# Altium footprint library BoostConverter.PcbLib: 13 footprints
Each footprint in its own frame and in the unit in brackets; x right, y up, seen from the top. Pads: shape width x height; smd on the part's side, far side on the other; paste and mask are expansions set on the pad; w line width, h text height; cw(c..) or ccw(c..) is an arc to the next point about the centre after c.
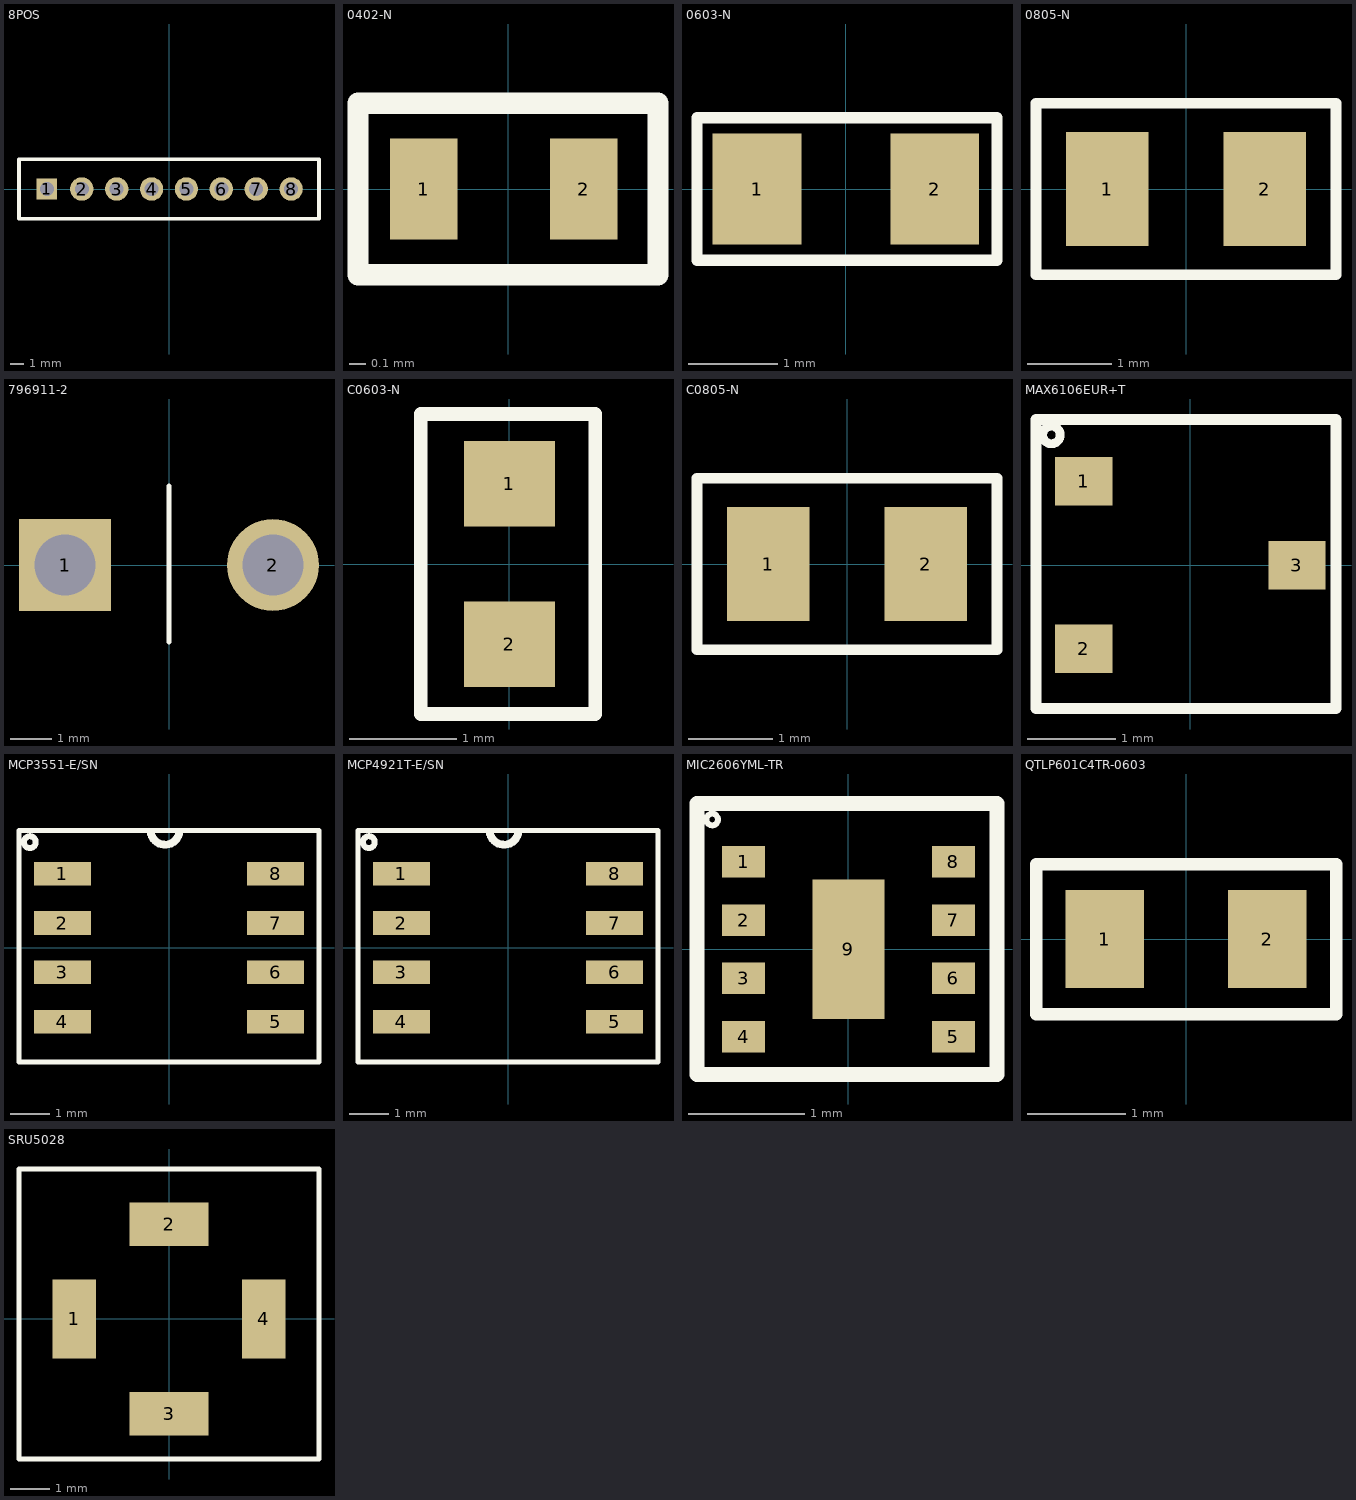
[diagram p0: the footprints below, top view; thin cyan lines are the x and y axes]

## 8POS [mm]
pads (8):
  rect 1.5x1.5 hole 1.02: 1(-8.89,0)
  round 1.7 hole 1.02: 2(-6.35,0) 3(-3.81,0) 4(-1.27,0) 5(1.27,0) 6(3.81,0) 7(6.35,0) 8(8.89,0)
Top Overlay:
  lines w0.274: -10.922,-2.159 10.922,-2.159 10.922,2.159 -10.922,2.159 -10.922,-2.159
3D body "PH1-08-UA.STEP": height 2.65, standoff -8.9, extent -10.189,-1.25 10.139,1.25

## 0402-N [mm]
pads (2):
  rect 0.4x0.6 smd mask+0.05: 1(-0.5,0) 2(0.45,0)
Top Overlay:
  lines w0.127: -0.889,-0.508 -0.889,0.508 0.889,0.508 0.889,-0.508 -0.889,-0.508
3D body "6-1622826-4.step": height 0.36, standoff 0.01, extent -0.5,-0.25 0.5,0.25

## 0603-N [mm]
pads (2):
  rect 1x1.25 smd mask+0.05: 1(-1,0) 2(1,0)
Top Overlay:
  lines w0.127: -1.675,-0.8 1.7,-0.8 1.7,0.8 -1.675,0.8 -1.675,-0.8
3D body "4149.step": height 0.5, standoff 0, extent -0.975,-0.625 1.025,0.625

## 0805-N [mm]
pads (2):
  rect 0.98x1.35 smd mask+0.05: 1(-0.935,0) 2(0.935,0)
Top Overlay:
  lines w0.127: -1.778,-1.016 1.778,-1.016 1.778,1.016 -1.778,1.016 -1.778,-1.016
3D body "RC0805N_PAN.step": height 0.71, standoff 0, extent -1,-0.6 1,0.6

## 796911-2 [mm]
pads (2):
  rect 2.25x2.25 hole 1.5 mask+0.05: 1(-2.54,0)
  round 2.25 hole 1.5 mask+0.05: 2(2.54,0)
Top Overlay:
  lines w0.127: 0,-1.875 0,1.925
3D body "c-796911-2-b-3d.stp": height 13.51, standoff -3.49, extent -5.005,-4.375 5.655,4.625
3D body: height 0.25, standoff -9, extent -2.921,6.731 -2.921,6.731
3D body: height 0.25, standoff -9, extent -0.889,7.493 -0.889,7.493

## C0603-N [mm]
pads (2):
  rect 0.85x0.8 smd mask+0.05: 1(0,0.75) 2(0,-0.75)
Top Overlay:
  lines w0.127: -0.825,-1.4 -0.825,1.4 0.8,1.4 0.8,-1.4 -0.825,-1.4
3D body "CAP_CL10_SAM.step": height 0.9, standoff 0, extent -0.4,-0.8 0.4,0.8

## C0805-N [mm]
pads (2):
  rect 0.98x1.35 smd mask+0.05: 1(-0.935,0) 2(0.935,0)
Top Overlay:
  lines w0.127: -1.778,-1.016 1.778,-1.016 1.778,1.016 -1.778,1.016 -1.778,-1.016
3D body "CAP_CL21_SAM.step": height 1.35, standoff 0, extent -1,-0.625 1,0.625

## MAX6106EUR+T [mm]
pads (3):
  rect 0.65x0.55 smd mask+0.05: 1(-1.207,0.95) 2(-1.207,-0.95) 3(1.208,0)
Top Overlay:
  circle w0.1: c-1.575,1.475 r0.1
  lines w0.127: -1.75,-1.625 -1.75,1.65 1.65,1.65 1.65,-1.625 -1.75,-1.625
3D body "21-0051H_MXM.step": height 1.12, standoff 0, extent -1.321,-1.524 1.321,1.524

## MCP3551-E/SN [mm]
pads (8):
  rect 1.45x0.6 smd mask+0.05: 1(-2.7,1.875) 2(-2.7,0.625) 3(-2.7,-0.625) 4(-2.7,-1.875) 5(2.7,-1.875) 6(2.7,-0.625) 7(2.7,0.625) 8(2.7,1.875)
Top Overlay:
  circle w0.15: c-3.525,2.675 r0.15
  lines w0.127: -3.8,-2.9 3.8,-2.9 3.8,2.975 -3.8,2.975 -3.8,-2.9
  lines w0.2: -0.453,2.877 ccw(c-0.1,2.975) 0.252,2.874
3D body "SOIC8-N_MC_MCH.step": height 1.86, standoff 0.1, extent -2.997,-2.476 2.997,2.426

## MCP4921T-E/SN [mm]
pads (8):
  rect 1.45x0.6 smd mask+0.05: 1(-2.7,1.875) 2(-2.7,0.625) 3(-2.7,-0.625) 4(-2.7,-1.875) 5(2.7,-1.875) 6(2.7,-0.625) 7(2.7,0.625) 8(2.7,1.875)
Top Overlay:
  circle w0.15: c-3.525,2.675 r0.15
  lines w0.127: -3.8,-2.9 -3.8,2.975 3.8,2.975 3.8,-2.9 -3.8,-2.9
  lines w0.2: -0.453,2.877 ccw(c-0.1,2.975) 0.252,2.874
3D body "SOIC8-N_MC_MCH.step": height 1.76, standoff 0, extent -2.997,-2.401 2.997,2.501

## MIC2606YML-TR [mm]
pads (9):
  rect 0.37x0.27 smd mask+0.05: 1(-0.9,0.75) 2(-0.9,0.25) 3(-0.9,-0.25) 4(-0.9,-0.75) 5(0.9,-0.75) 6(0.9,-0.25) 7(0.9,0.25) 8(0.9,0.75)
  rect 0.62x1.2 smd mask+0.05: 9(0,0)
Top Overlay:
  circle w0.05: c-1.17,1.113 r0.05
  lines w0.127: -1.3,-1.075 -1.3,1.25 1.275,1.25 1.275,-1.075 -1.3,-1.075
3D body: height 1.76, standoff 0, extent 0,1.25 0,1.25
3D body "MLF-8_ML_MCH.step": height 0.89, standoff 0, extent -1.003,-1.003 1.003,1.003

## QTLP601C4TR-0603 [mm]
pads (2):
  rect 0.8x1 smd mask+0.05: 1(-0.825,0) 2(0.825,0)
Top Overlay:
  lines w0.127: -1.524,-0.762 -1.524,0.762 1.524,0.762 1.524,-0.762 -1.524,-0.762
3D body "QTLP601C4TR.STEP": height 0.61, standoff 0.01, extent -0.8,-0.419 0.8,0.381

## SRU5028 [mm] "Ýnductor"
pads (4):
  rect 1.1x2 smd mask+0.05: 1(-2.4,0) 4(2.4,0)
  rect 2x1.1 smd mask+0.05: 2(0,2.4)
  rect 2x1.1 smd paste+0 mask+0.05: 3(0,-2.4)
Top Overlay:
  lines w0.127: -3.8,-3.556 3.8,-3.556 3.8,3.8 -3.8,3.8 -3.8,-3.556
3D body "6924867.step": height 2.81, standoff 0.01, extent -2.6,-2.6 2.6,2.6